# Altium footprint library WCAP-CSMH.PcbLib: 24 footprints (part 2 of 2)
Each footprint in its own frame and in the unit in brackets; x right, y up, seen from the top. Pads: shape width x height; smd on the part's side, far side on the other; paste and mask are expansions set on the pad; w line width, h text height; cw(c..) or ccw(c..) is an arc to the next point about the centre after c.
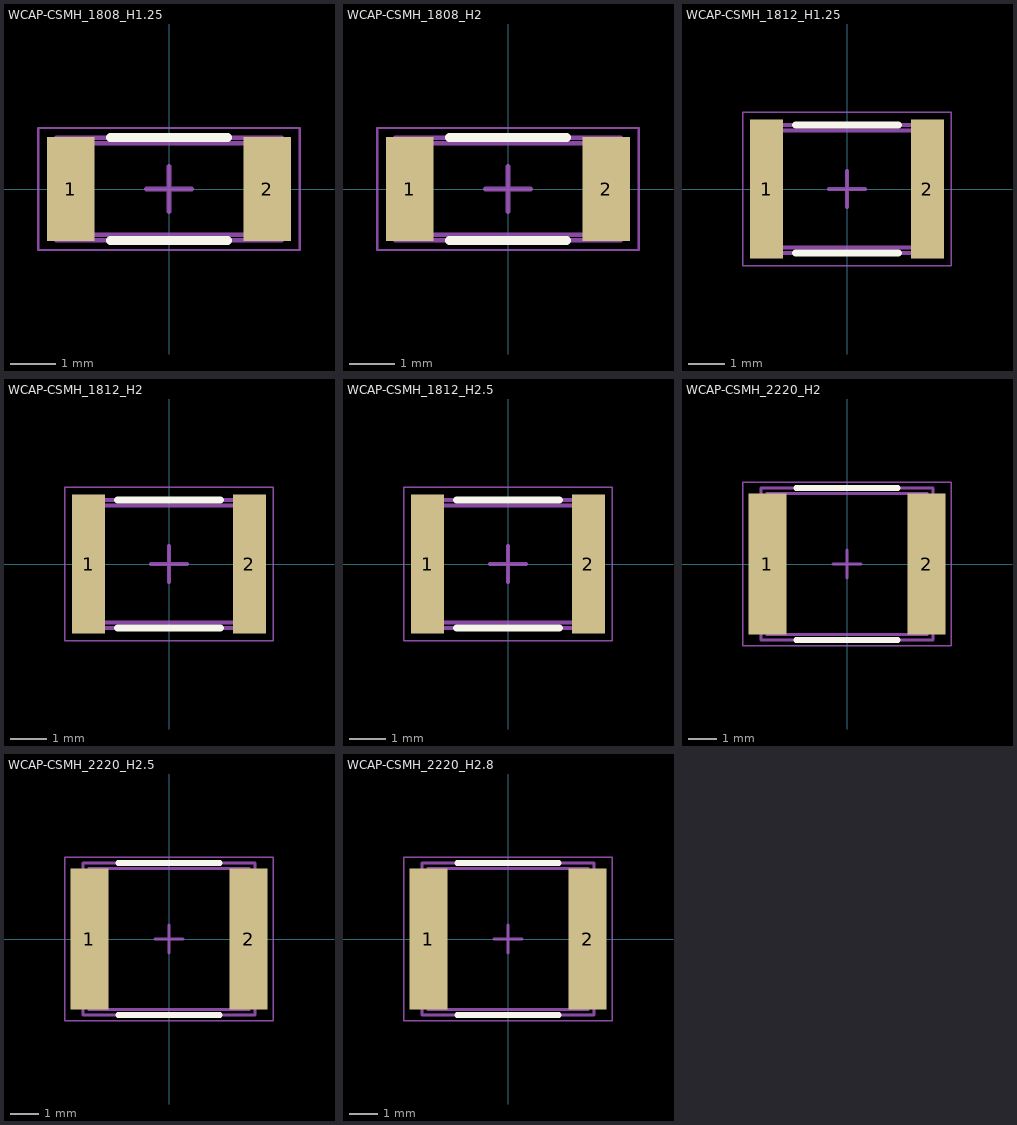
[diagram p1: the footprints below, top view; thin cyan lines are the x and y axes]

## WCAP-CSMH_1808_H1.25 [mm] "Ceramic Capacitors, body 4.5x2.03mm"
height 1.25
pads (2):
  rect 1.05x2.3 smd: 1(-2.175,0) 2(2.175,0)
Top Overlay:
  lines w0.2: -1.3,-1.14 1.3,-1.14 ; -1.3,1.14 1.3,1.14
Top Assembly:
  lines w0.1: -2.5,-1.14 2.5,-1.14 2.5,1.14 -2.5,1.14 -2.5,-1.14
Top Designator:
  text ".Designator" at -3.647,-0.357 h1
Top 3D Body:
  lines w0.1: -2.25,-1.015 -2.25,1.015 2.25,1.015 2.25,-1.015 -2.25,-1.015
Top Courtyard:
  lines w0.05: -2.9,-1.35 2.9,-1.35 2.9,1.35 -2.9,1.35 -2.9,-1.35
Top Component Center:
  lines w0.1: -0.5,0 0.5,0 ; 0,-0.5 0,0.5
3D body "CAPC4520X12N.step": height 1.25, standoff 0, extent -2.25,-1.015 2.25,1.015

## WCAP-CSMH_1808_H2 [mm] "Ceramic Capacitors, body 4.5x2.03mm"
height 2
pads (2):
  rect 1.05x2.3 smd: 1(-2.175,0) 2(2.175,0)
Top Overlay:
  lines w0.2: -1.3,-1.14 1.3,-1.14 ; -1.3,1.14 1.3,1.14
Top Assembly:
  lines w0.1: -2.5,-1.14 2.5,-1.14 2.5,1.14 -2.5,1.14 -2.5,-1.14
Top Designator:
  text ".Designator" at -3.647,-0.357 h1
Top 3D Body:
  lines w0.1: -2.25,-1.015 2.25,-1.015 2.25,1.015 -2.25,1.015 -2.25,-1.015
Top Courtyard:
  lines w0.05: -2.9,-1.35 -2.9,1.35 2.9,1.35 2.9,-1.35 -2.9,-1.35
Top Component Center:
  lines w0.1: -0.5,0 0.5,0 ; 0,-0.5 0,0.5
3D body "CAPC4520X20N.step": height 2, standoff 0, extent -2.25,-1.015 2.25,1.015

## WCAP-CSMH_1812_H1.25 [mm] "Ceramic Capacitors, body 4.5x3.2mm"
height 1.25
pads (2):
  rect 0.9x3.8 smd: 1(-2.2,0) 2(2.2,0)
Top Overlay:
  lines w0.2: -1.4,-1.75 1.4,-1.75 ; -1.4,1.75 1.4,1.75
Top Assembly:
  lines w0.1: -2.5,-1.75 2.5,-1.75 2.5,1.75 -2.5,1.75 -2.5,-1.75
Top Designator:
  text ".Designator" at -3.647,-0.357 h1
Top 3D Body:
  lines w0.1: -2.25,-1.6 -2.25,1.6 2.25,1.6 2.25,-1.6 -2.25,-1.6
Top Courtyard:
  lines w0.05: -2.85,-2.1 -2.85,2.1 2.85,2.1 2.85,-2.1 -2.85,-2.1
Top Component Center:
  lines w0.1: -0.5,0 0.5,0 ; 0,-0.5 0,0.5
3D body "CAPC4532X12N.step": height 1.25, standoff 0, extent -2.25,-1.6 2.25,1.6

## WCAP-CSMH_1812_H2 [mm] "Ceramic Capacitors, body 4.5x3.2mm"
height 2
pads (2):
  rect 0.9x3.8 smd: 1(-2.2,0) 2(2.2,0)
Top Overlay:
  lines w0.2: -1.4,-1.75 1.4,-1.75 ; -1.4,1.75 1.4,1.75
Top Assembly:
  lines w0.1: -2.5,-1.75 -2.5,1.75 2.5,1.75 2.5,-1.75 -2.5,-1.75
Top Designator:
  text ".Designator" at -3.647,-0.357 h1
Top 3D Body:
  lines w0.1: -2.25,-1.6 2.25,-1.6 2.25,1.6 -2.25,1.6 -2.25,-1.6
Top Courtyard:
  lines w0.05: -2.85,-2.1 2.85,-2.1 2.85,2.1 -2.85,2.1 -2.85,-2.1
Top Component Center:
  lines w0.1: -0.5,0 0.5,0 ; 0,-0.5 0,0.5
3D body "CAPC4532X20N.step": height 2, standoff 0, extent -2.25,-1.6 2.25,1.6

## WCAP-CSMH_1812_H2.5 [mm] "Ceramic Capacitors, body 4.5x3.2mm"
height 2.5
pads (2):
  rect 0.9x3.8 smd: 1(-2.2,0) 2(2.2,0)
Top Overlay:
  lines w0.2: -1.4,-1.75 1.4,-1.75 ; -1.4,1.75 1.4,1.75
Top Assembly:
  lines w0.1: -2.5,-1.75 2.5,-1.75 2.5,1.75 -2.5,1.75 -2.5,-1.75
Top Designator:
  text ".Designator" at -3.647,-0.357 h1
Top 3D Body:
  lines w0.1: -2.25,-1.6 2.25,-1.6 2.25,1.6 -2.25,1.6 -2.25,-1.6
Top Courtyard:
  lines w0.05: -2.85,-2.1 2.85,-2.1 2.85,2.1 -2.85,2.1 -2.85,-2.1
Top Component Center:
  lines w0.1: -0.5,0 0.5,0 ; 0,-0.5 0,0.5
3D body "CAPC4532X25N.step": height 2.5, standoff 0, extent -2.25,-1.6 2.25,1.6

## WCAP-CSMH_2220_H2 [mm] "Ceramic Capacitors, body 5.70x5.00mm"
height 2
pads (2):
  rect 1.35x5 smd: 1(-2.825,0) 2(2.825,0)
Top Overlay:
  lines w0.2: -1.8,-2.7 1.8,-2.7 ; -1.8,2.7 1.8,2.7
Top Assembly:
  lines w0.1: -3.05,-2.7 3.05,-2.7 3.05,2.7 -3.05,2.7 -3.05,-2.7
Top Designator:
  text ".Designator" at -3.647,-0.357 h1
Top 3D Body:
  lines w0.1: -2.85,-2.5 -2.85,2.5 2.85,2.5 2.85,-2.5 -2.85,-2.5
Top Courtyard:
  lines w0.05: -3.7,-2.9 -3.7,2.9 3.7,2.9 3.7,-2.9 -3.7,-2.9
Top Component Center:
  lines w0.1: -0.5,0 0.5,0 ; 0,-0.5 0,0.5
3D body "CAPC5750X20N.step": height 2, standoff 0, extent -2.85,-2.5 2.85,2.5

## WCAP-CSMH_2220_H2.5 [mm] "Ceramic Capacitors, body 5.70x5.00mm"
height 2.5
pads (2):
  rect 1.35x5 smd: 1(-2.825,0) 2(2.825,0)
Top Overlay:
  lines w0.2: -1.8,-2.7 1.8,-2.7 ; -1.8,2.7 1.8,2.7
Top Assembly:
  lines w0.1: -3.05,-2.7 3.05,-2.7 3.05,2.7 -3.05,2.7 -3.05,-2.7
Top Designator:
  text ".Designator" at -3.647,-0.357 h1
Top 3D Body:
  lines w0.1: -2.85,-2.5 -2.85,2.5 2.85,2.5 2.85,-2.5 -2.85,-2.5
Top Courtyard:
  lines w0.05: -3.7,-2.9 -3.7,2.9 3.7,2.9 3.7,-2.9 -3.7,-2.9
Top Component Center:
  lines w0.1: -0.5,0 0.5,0 ; 0,-0.5 0,0.5
3D body "CAPC5750X25N.step": height 2.5, standoff 0, extent -2.85,-2.5 2.85,2.5

## WCAP-CSMH_2220_H2.8 [mm] "Ceramic Capacitors, body 5.70x5.00mm"
height 2.8
pads (2):
  rect 1.35x5 smd: 1(-2.825,0) 2(2.825,0)
Top Overlay:
  lines w0.2: -1.8,-2.7 1.8,-2.7 ; -1.8,2.7 1.8,2.7
Top Assembly:
  lines w0.1: -3.05,-2.7 -3.05,2.7 3.05,2.7 3.05,-2.7 -3.05,-2.7
Top Designator:
  text ".Designator" at -3.647,-0.357 h1
Top 3D Body:
  lines w0.1: -2.85,-2.5 -2.85,2.5 2.85,2.5 2.85,-2.5 -2.85,-2.5
Top Courtyard:
  lines w0.05: -3.7,-2.9 -3.7,2.9 3.7,2.9 3.7,-2.9 -3.7,-2.9
Top Component Center:
  lines w0.1: -0.5,0 0.5,0 ; 0,-0.5 0,0.5
3D body "CAPC5750X28N.step": height 2.8, standoff 0, extent -2.85,-2.5 2.85,2.5